# EAGLE library part D1_MINI (library wemos_D1_Mini)
wifi board based on ESP-8266EX. Source: Datasheet <https://www.wemos.cc/product/d1-mini.html>
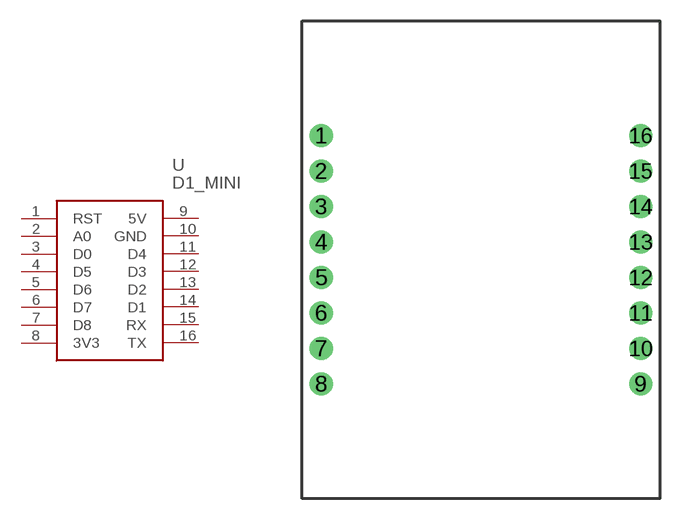
[diagram p0: symbol with the pads of D1-MINI; footprint D1-MINI]

Designator prefix U

## D1_MINI (Description: wifi board based on ESP-8266EX.; Height: mm; Manufacturer_Name: Wemos; Manufacturer_Part_Number: D1 Mini)  [D1-MINI]
1  RST
2  A0
3  D0
4  D5
5  D6
6  D7
7  D8
8  3V3
9  5V
10  GND
11  D4
12  D3
13  D2
14  D1
15  RX
16  TX

## Footprint D1-MINI (pad centres in mm)
D1-Mini
drill 1.11 pad 1.61: 1 -11.43,8.89; 2 -11.43,6.35; 3 -11.43,3.81; 4 -11.43,1.27; 5 -11.43,-1.27; 6 -11.43,-3.81; 7 -11.43,-6.35; 8 -11.43,-8.89; 9 11.43,-8.89; 10 11.43,-6.35; 11 11.43,-3.81; 12 11.43,-1.27; 13 11.43,1.27; 14 11.43,3.81; 15 11.43,6.35; 16 11.43,8.89